# EAGLE library part MAX2769 (library jobygnss)
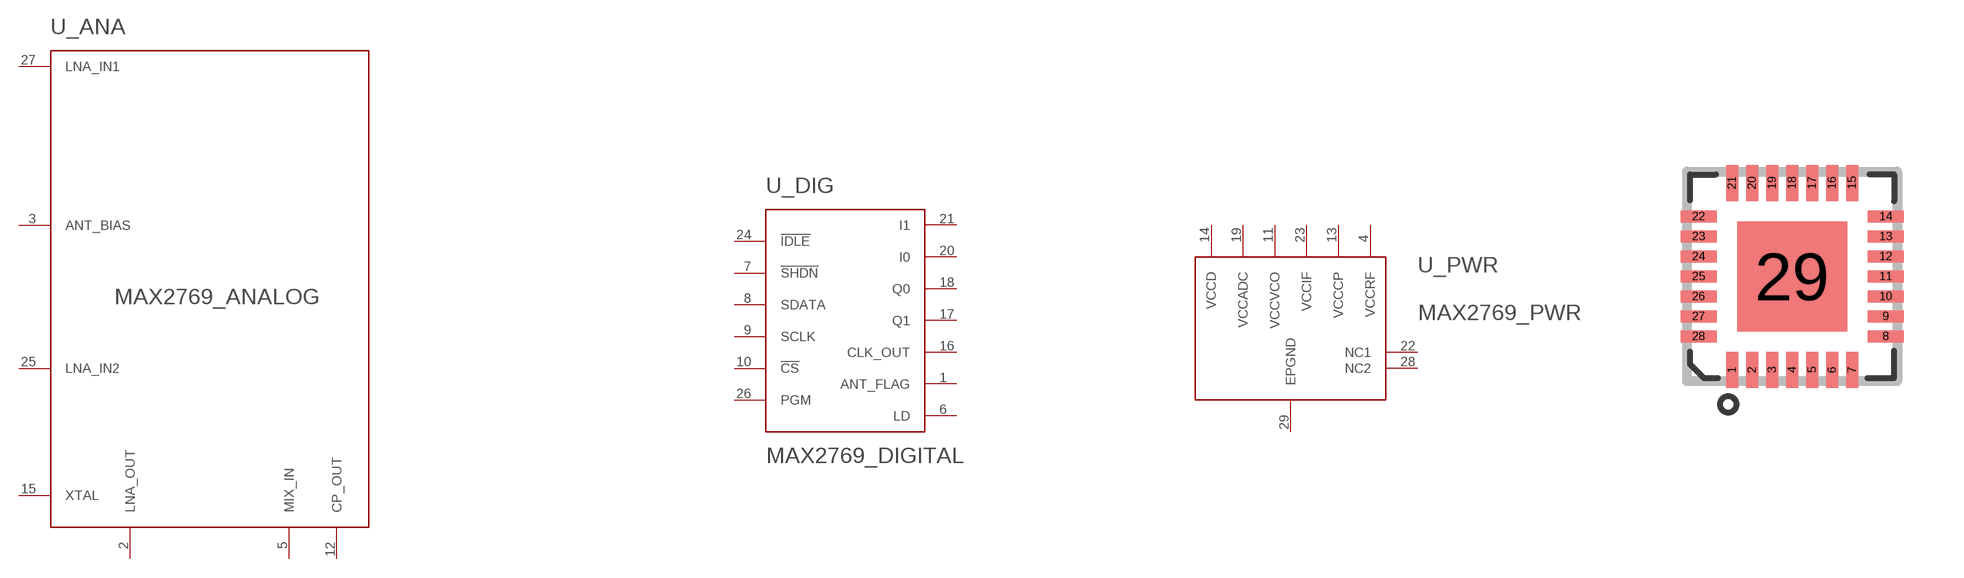
[diagram p0: symbol with the pads of MAX2769; footprint MAX2769]

Designator prefix U; gates _ANA=MAX2769_3_ANALOG _DIG=MAX2769_3_DIGITAL _PWR=MAX2769_3_POWER

## MAX2769  [MAX2769]
1  _DIG:ANT_FLAG
2  _ANA:LNA_OUT
3  _ANA:ANT_BIAS
4  _PWR:VCCRF
5  _ANA:MIX_IN
6  _DIG:LD
7  _DIG:!SHDN
8  _DIG:SDATA
9  _DIG:SCLK
10  _DIG:!CS
11  _PWR:VCCVCO
12  _ANA:CP_OUT
13  _PWR:VCCCP
14  _PWR:VCCD
15  _ANA:XTAL
16  _DIG:CLK_OUT
17  _DIG:Q1
18  _DIG:Q0
19  _PWR:VCCADC
20  _DIG:I0
21  _DIG:I1
22  _PWR:NC1
23  _PWR:VCCIF
24  _DIG:!IDLE
25  _ANA:LNA_IN2
26  _DIG:PGM
27  _ANA:LNA_IN1
28  _PWR:NC2
29  _PWR:EPGND

## Footprint MAX2769 (pad centres in mm)
smd 0.3 x 0.9: 1 -1.5,-2.34; 2 -1,-2.34; 3 -0.5,-2.34; 4 0,-2.34; 5 0.5,-2.34; 6 1,-2.34; 7 1.5,-2.34; 15 1.5,2.34; 16 1,2.34; 17 0.5,2.34; 18 0,2.34; 19 -0.5,2.34; 20 -1,2.34; 21 -1.5,2.34
smd 0.9 x 0.3: 8 2.34,-1.5; 9 2.34,-1; 10 2.34,-0.5; 11 2.34,0; 12 2.34,0.5; 13 2.34,1; 14 2.34,1.5; 22 -2.34,1.5; 23 -2.34,1; 24 -2.34,0.5; 25 -2.34,0; 26 -2.34,-0.5; 27 -2.34,-1; 28 -2.34,-1.5
smd 2.75 x 2.75: 29 0,0